# EAGLE library part SN74HC21PW (library CC11x)
Triple 3 Input positive NAND gate
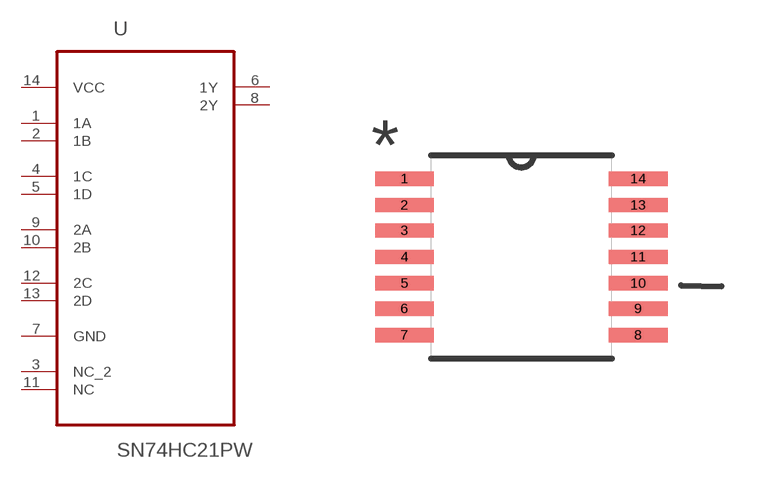
[diagram p16: symbol with the pads of SOP65P640X120-14N; footprint SOP65P640X120-14N]

Designator prefix U

## SN74HC21PW (MPN: SN74HC21PW; OC_FARNELL: 1741215; OC_NEWARK: 34R8760; PACKAGE: TSSOP-14; SUPPLIER: Texas Instruments)  [SOP65P640X120-14N]
1  1A  in
2  1B  in
3  NC_2  nc
4  1C  in
5  1D  in
6  1Y  out
7  GND  pas
8  2Y  out
9  2A  in
10  2B  in
11  NC  nc
12  2C  in
13  2D  in
14  VCC  pwr

## Footprint SOP65P640X120-14N (pad centres in mm)
smd 1.473 x 0.356: 1 -2.921,1.956; 2 -2.921,1.295; 3 -2.921,0.66; 4 -2.921,0; 5 -2.921,-0.66; 6 -2.921,-1.295; 7 -2.921,-1.956; 8 2.921,-1.956; 9 2.921,-1.295; 10 2.921,-0.66; 11 2.921,0; 12 2.921,0.66; 13 2.921,1.295; 14 2.921,1.956